# Altium integrated library TI Data Converters Analog to Digital Converter.IntLib: 2197 symbols (part 38 of 168)
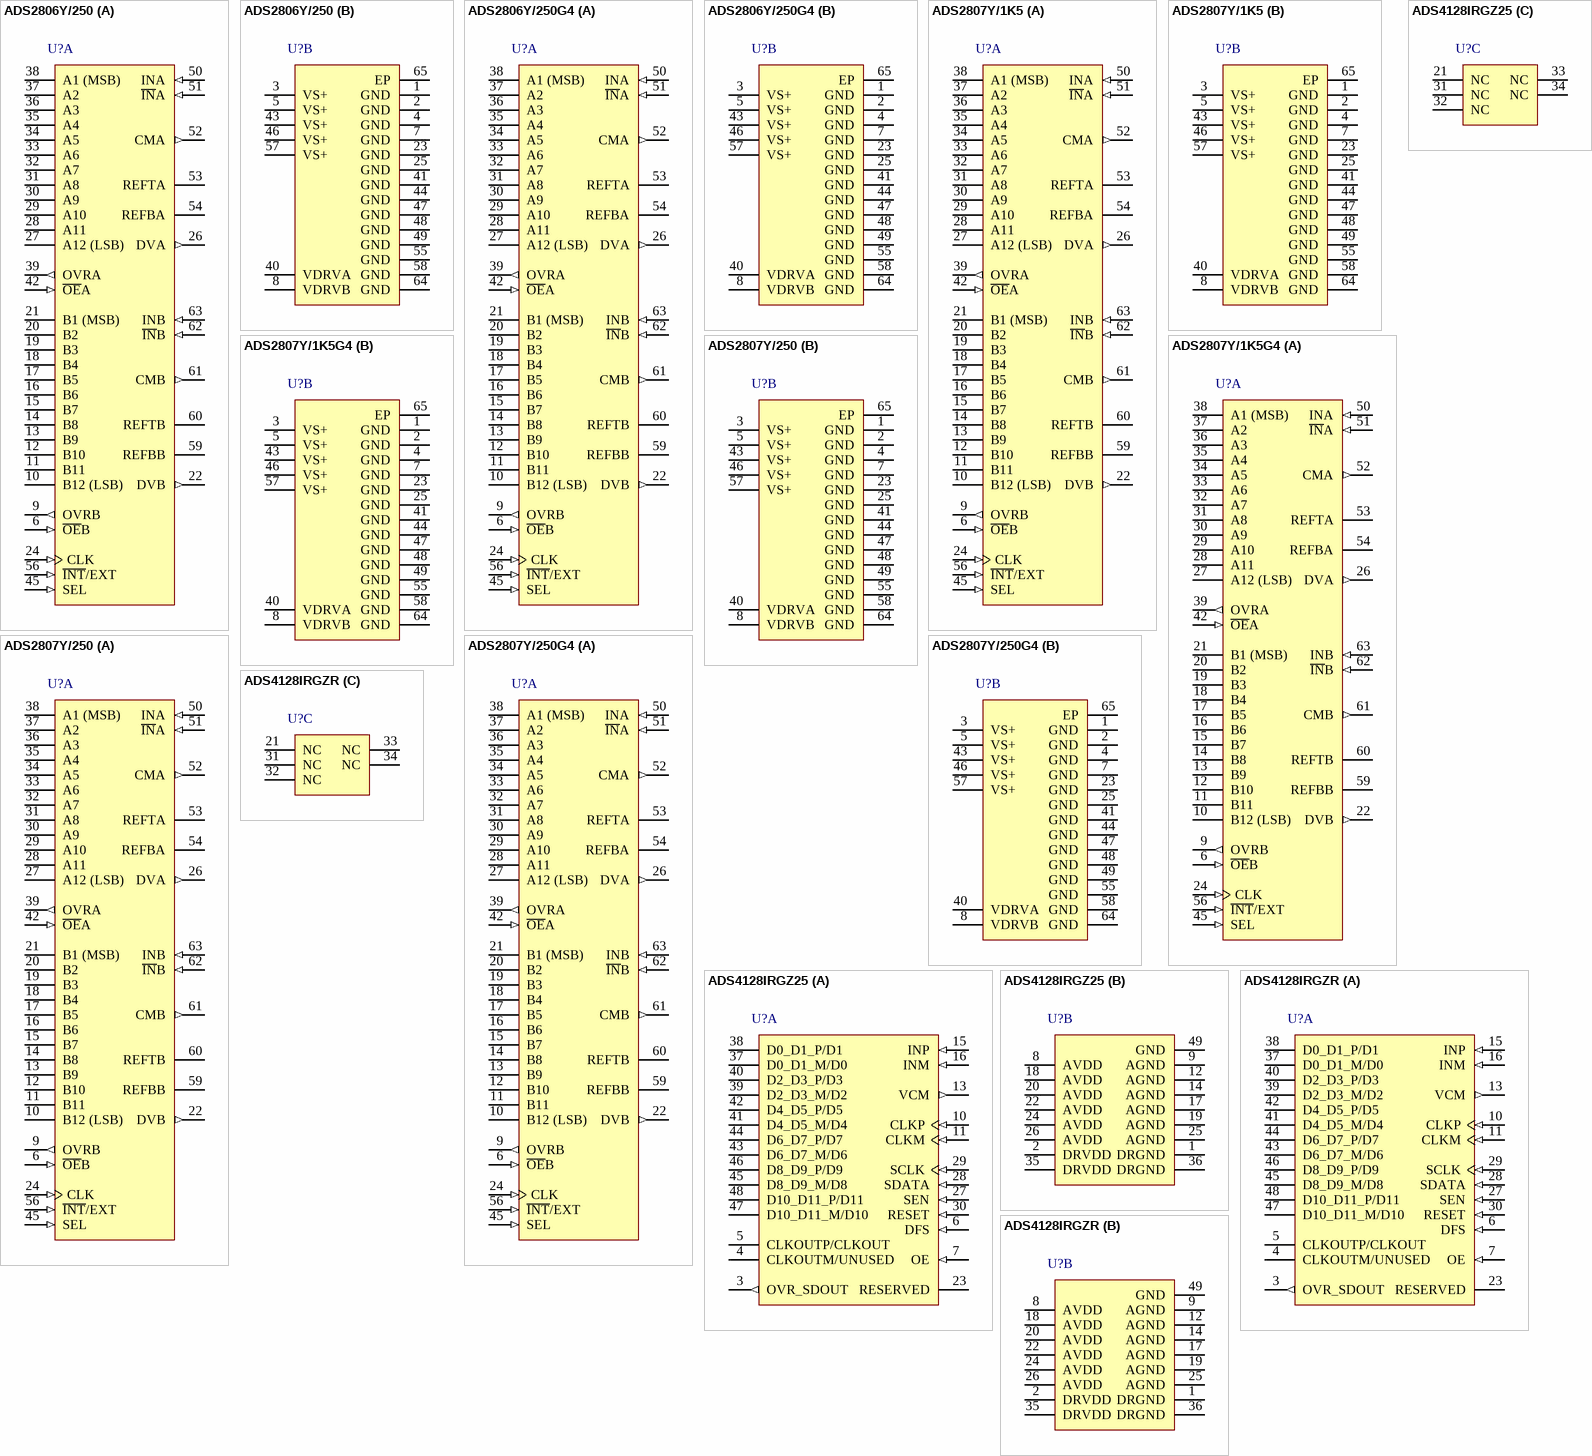
[diagram p163: symbols ADS2806Y/250 to ADS4128IRGZR]

## ADS4128IRGZR
designator U?
12-Bit, 200 MSPS, Ultralow-Power ADC, -40 to 85 degC, 48-pin QFN (RGZ48), Green (RoHS & no Sb/Br); Manufacturer: Texas Instruments; PartNumber: ADS4128IRGZR; # Input Channels: 1; Analog Voltage AV/DD(Max)(V): 1.9; Analog Voltage AV/DD(Min)(V): 1.7; Architecture: Pipeline; ENOB(Bits): 11.2; INL(Max)(+/-LSB): 5; Interface: Parallel CMOS, Parallel LVDS; Resolution(Bits): 12; Sample Rate(max)(SPS): 200M; SFDR(dB): 85; SINAD(dB): 68.8; SNR(dB): 69; SubFamily: High Speed ADC (>10MSPS); DatasheetVersion: SBAS578; PackageVersion: 4204101/F, 06/2011; PackageReference: RGZ48-5600X5600TP; PackageDescription: 48-Lead, Plastic Flat Pack, Body Size 7 x 7 mm, Pitch 0.5 mm; Supplier 1: Digi-Key; Supplier Part Number 1: THS1030IPWG4-ND; Supplier 2: Mouser; Supplier Part Number 2: 595-THS1030IPWG4; Digital Supply(Max)(V): 1.9; Digital Supply(Min)(V): 1.7; Eco-Plan: Green (RoHS & no Sb/Br); Mounting Technology: Surface Mount; Code_JEDEC: MO-220; ComponentLink1Description: Manufacturer URL; ComponentLink1URL: http://www.ti.com/; ComponentLink2Description: Datasheet; ComponentLink2URL: http://www.ti.com/lit/ds/symlink/ads4128.pdf; ComponentLink3Description: Package Specification; ComponentLink3URL: http://www.ti.com/lit/ml/mpqf123e/mpqf123e.pdf
footprint TI-RGZ48-5600X5600TP_V (QFN, 48-Leads, Body 7x7mm, Pitch 0.5mm, Thermal Pad 5.6x5.6mm)
part A pins: 3 OVR_SDOUT (out) "This pin functions as an out-of-range indicator after reset when register bit READOUT = 0, and functions as a serial register readout pin when READOUT = 1.", 4 CLKOUTM/UNUSED (hiz), 5 CLKOUTP/CLKOUT (hiz), 6 DFS (in) "Data format select input. This pin sets the DATA FORMAT (twos complement or offset binary) and the LVDS and CMOS output interface type.", 7 OE (in) "Output buffer enable input, active high; this pin has an internal 180-kohm pull-up resistor to DRVDD.", 10 CLKP (in) "Differential clock input, positive", 11 CLKM (in) "Differential clock input, negative", 13 VCM (out) "Outputs the common-mode voltage (0.95 V) that can be used externally to bias the analog input pins.", 15 INP (in) "Differential analog input, positive", 16 INM (in) "Differential analog input, negative", 23 RESERVED "Digital control pin, reserved for future use", 27 SEN (in) "This pin functions as a serial interface enable input when RESET is low. When RESET is high, SEN has no function and should be tied to AVDD. This pin has an internal 180-kohm pull-up resistor to AVDD.", 28 SDATA (in) "This pin functions as a serial interface data input when RESET is low. When RESET is high, SDATA functions as a STANDBY control pin (see Table 10). This pin has an internal 180-kohm pull-down resistor.", 29 SCLK (in) "This pin functions as a serial interface clock input when RESET is low. When RESET is high, SCLK has no function and should be tied to ground. This pin has an internal 180-kohm pull-down resistor.", 30 RESET (in) "Serial interface RESET input. When using the serial interface mode, the internal registers must initialize through hardware RESET by applying a high pulse on this pin or by using the software reset option; refer to the (See Datasheet)", 37 D0_D1_M/D0 (hiz), 38 D0_D1_P/D1 (hiz), 39 D2_D3_M/D2 (hiz), 40 D2_D3_P/D3 (hiz), 41 D4_D5_M/D4 (hiz), 42 D4_D5_P/D5 (hiz), 43 D6_D7_M/D6 (hiz), 44 D6_D7_P/D7 (hiz), 45 D8_D9_M/D8 (hiz), 46 D8_D9_P/D9 (hiz), 47 D10_D11_M/D10 (hiz), 48 D10_D11_P/D11 (hiz)
part B pins: 1 DRGND (power) "Digital and output buffer ground", 2 DRVDD (power) "1.8-V digital and output buffer supply", 8 AVDD (power) "1.8-V analog power supply", 9 AGND (power) "Analog ground", 12 AGND (power) "Analog ground", 14 AGND (power) "Analog ground", 17 AGND (power) "Analog ground", 18 AVDD (power) "1.8-V analog power supply", 19 AGND (power) "Analog ground", 20 AVDD (power) "1.8-V analog power supply", 22 AVDD (power) "1.8-V analog power supply", 24 AVDD (power) "1.8-V analog power supply", 25 AGND (power) "Analog ground", 26 AVDD (power) "1.8-V analog power supply", 35 DRVDD (power) "1.8-V digital and output buffer supply", 36 DRGND (power) "Digital and output buffer ground", 49 GND (power) "Digital and output buffer ground"
part C pins: 21 NC "Do not connect", 31 NC "Do not connect", 32 NC "Do not connect", 33 NC "Do not connect", 34 NC "Do not connect"

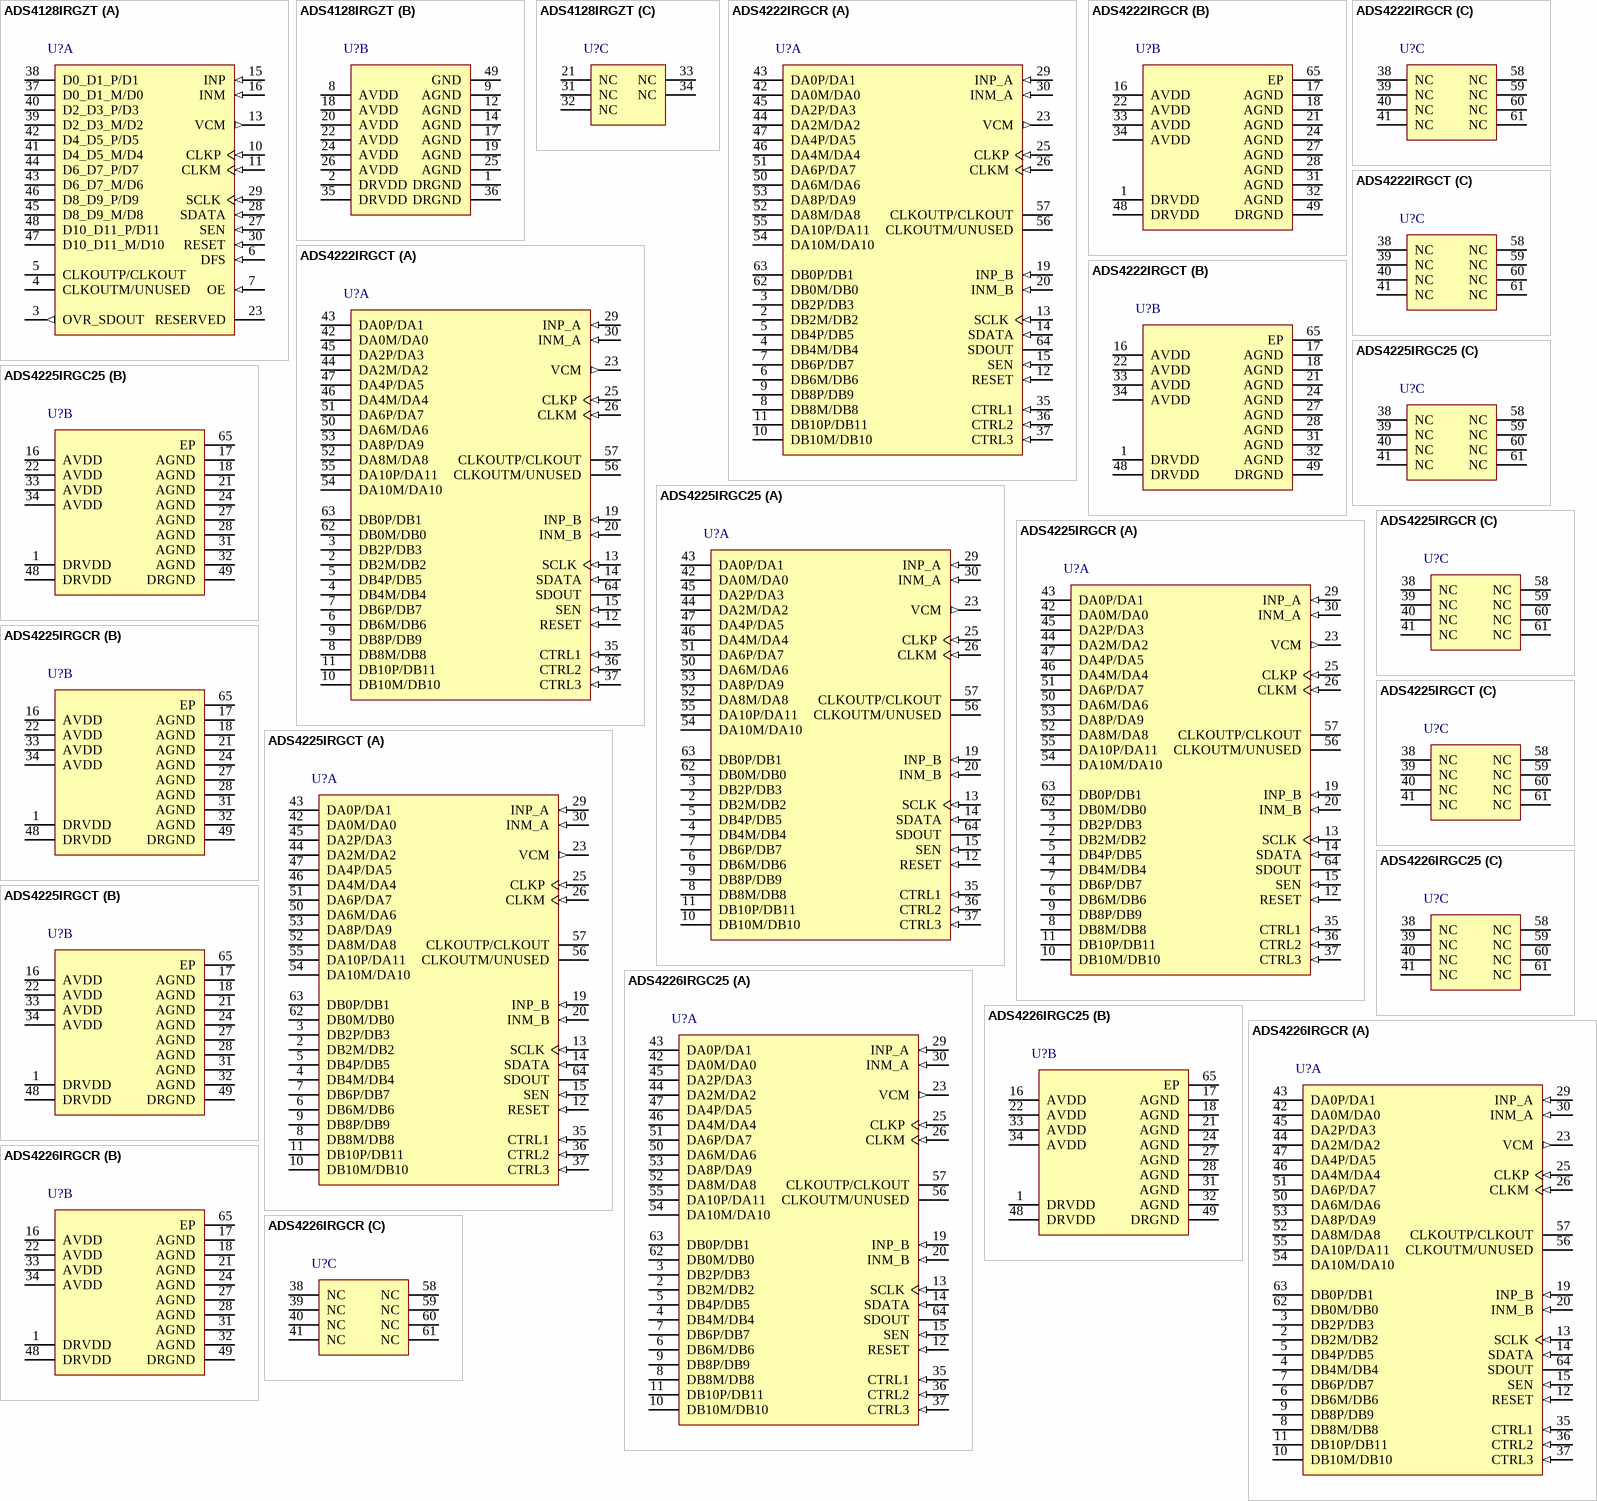
[diagram p32: symbols ADS4128IRGZT to ADS4226IRGCR]

## ADS4128IRGZT
designator U?
12-Bit, 200 MSPS, Ultralow-Power ADC, -40 to 85 degC, 48-pin QFN (RGZ48), Green (RoHS & no Sb/Br); Manufacturer: Texas Instruments; PartNumber: ADS4128IRGZT; # Input Channels: 1; Analog Voltage AV/DD(Max)(V): 1.9; Analog Voltage AV/DD(Min)(V): 1.7; Architecture: Pipeline; ENOB(Bits): 11.2; INL(Max)(+/-LSB): 5; Interface: Parallel CMOS, Parallel LVDS; Resolution(Bits): 12; Sample Rate(max)(SPS): 200M; SFDR(dB): 85; SINAD(dB): 68.8; SNR(dB): 69; SubFamily: High Speed ADC (>10MSPS); DatasheetVersion: SBAS578; PackageVersion: 4204101/F, 06/2011; PackageReference: RGZ48-5600X5600TP; PackageDescription: 48-Lead, Plastic Flat Pack, Body Size 7 x 7 mm, Pitch 0.5 mm; Supplier 1: Digi-Key; Supplier Part Number 1: THS1030IPWR-ND; Supplier 2: Mouser; Supplier Part Number 2: 595-THS1030IPWR; Digital Supply(Max)(V): 1.9; Digital Supply(Min)(V): 1.7; Eco-Plan: Green (RoHS & no Sb/Br); Mounting Technology: Surface Mount; Code_JEDEC: MO-220; ComponentLink1Description: Manufacturer URL; ComponentLink1URL: http://www.ti.com/; ComponentLink2Description: Datasheet; ComponentLink2URL: http://www.ti.com/lit/ds/symlink/ads4128.pdf; ComponentLink3Description: Package Specification; ComponentLink3URL: http://www.ti.com/lit/ml/mpqf123e/mpqf123e.pdf
footprint TI-RGZ48-5600X5600TP_V (QFN, 48-Leads, Body 7x7mm, Pitch 0.5mm, Thermal Pad 5.6x5.6mm)
part A pins: 3 OVR_SDOUT (out) "This pin functions as an out-of-range indicator after reset when register bit READOUT = 0, and functions as a serial register readout pin when READOUT = 1.", 4 CLKOUTM/UNUSED (hiz), 5 CLKOUTP/CLKOUT (hiz), 6 DFS (in) "Data format select input. This pin sets the DATA FORMAT (twos complement or offset binary) and the LVDS and CMOS output interface type.", 7 OE (in) "Output buffer enable input, active high; this pin has an internal 180-kohm pull-up resistor to DRVDD.", 10 CLKP (in) "Differential clock input, positive", 11 CLKM (in) "Differential clock input, negative", 13 VCM (out) "Outputs the common-mode voltage (0.95 V) that can be used externally to bias the analog input pins.", 15 INP (in) "Differential analog input, positive", 16 INM (in) "Differential analog input, negative", 23 RESERVED "Digital control pin, reserved for future use", 27 SEN (in) "This pin functions as a serial interface enable input when RESET is low. When RESET is high, SEN has no function and should be tied to AVDD. This pin has an internal 180-kohm pull-up resistor to AVDD.", 28 SDATA (in) "This pin functions as a serial interface data input when RESET is low. When RESET is high, SDATA functions as a STANDBY control pin (see Table 10). This pin has an internal 180-kohm pull-down resistor.", 29 SCLK (in) "This pin functions as a serial interface clock input when RESET is low. When RESET is high, SCLK has no function and should be tied to ground. This pin has an internal 180-kohm pull-down resistor.", 30 RESET (in) "Serial interface RESET input. When using the serial interface mode, the internal registers must initialize through hardware RESET by applying a high pulse on this pin or by using the software reset option; refer to the (See Datasheet)", 37 D0_D1_M/D0 (hiz), 38 D0_D1_P/D1 (hiz), 39 D2_D3_M/D2 (hiz), 40 D2_D3_P/D3 (hiz), 41 D4_D5_M/D4 (hiz), 42 D4_D5_P/D5 (hiz), 43 D6_D7_M/D6 (hiz), 44 D6_D7_P/D7 (hiz), 45 D8_D9_M/D8 (hiz), 46 D8_D9_P/D9 (hiz), 47 D10_D11_M/D10 (hiz), 48 D10_D11_P/D11 (hiz)
part B pins: 1 DRGND (power) "Digital and output buffer ground", 2 DRVDD (power) "1.8-V digital and output buffer supply", 8 AVDD (power) "1.8-V analog power supply", 9 AGND (power) "Analog ground", 12 AGND (power) "Analog ground", 14 AGND (power) "Analog ground", 17 AGND (power) "Analog ground", 18 AVDD (power) "1.8-V analog power supply", 19 AGND (power) "Analog ground", 20 AVDD (power) "1.8-V analog power supply", 22 AVDD (power) "1.8-V analog power supply", 24 AVDD (power) "1.8-V analog power supply", 25 AGND (power) "Analog ground", 26 AVDD (power) "1.8-V analog power supply", 35 DRVDD (power) "1.8-V digital and output buffer supply", 36 DRGND (power) "Digital and output buffer ground", 49 GND (power) "Digital and output buffer ground"
part C pins: 21 NC "Do not connect", 31 NC "Do not connect", 32 NC "Do not connect", 33 NC "Do not connect", 34 NC "Do not connect"

## ADS4222IRGCR
designator U?
12-Bit 65 MSPS Dual Low Power ADC, -40 to 85 degC, 64-pin QFN (RGC64), Green (RoHS & no Sb/Br); Manufacturer: Texas Instruments; PartNumber: ADS4222IRGCR; # Input Channels: 2; Analog Voltage AV/DD(Max)(V): 1.9; Analog Voltage AV/DD(Min)(V): 1.7; Architecture: Pipeline; ENOB(Bits): 11.1; INL(Max)(+/-LSB): 2.5; Interface: Parallel CMOS, Parallel LVDS; Resolution(Bits): 12; Sample Rate (max)(SPS): 65M; SFDR(dB): 91; SINAD(dB): 70.8; SNR(dB): 70.9; SubFamily: High Speed ADC (>10MSPS); DatasheetVersion: SBAS533C; PackageVersion: 4204106/F, 11/2011; PackageReference: RGC64-7400X7400TP; PackageDescription: 64-Pin Plastic Quad Flatpack No-Lead, Body 9 x 9 mm, Pitch 0.5 mm; Supplier 1: Digi-Key; Supplier Part Number 1: THS1030IPWRG4-ND; Supplier 2: Mouser; Supplier Part Number 2: 595-THS1030IPWRG4; Digital Supply(Max)(V): 1.9; Digital Supply(Min)(V): 1.7; Eco-Plan: Green (RoHS & no Sb/Br); Mounting Technology: Surface Mount; ComponentLink1Description: Manufacturer URL; ComponentLink1URL: http://www.ti.com/; ComponentLink2Description: Datasheet; ComponentLink2URL: http://www.ti.com/general/docs/lit/getliterature.tsp?genericPartNumber=ADS4222&fileType=pdf; ComponentLink3Description: Package Specification; ComponentLink3URL: http://www.ti.com/litv/pdf/mpqf125e
footprint TI-RGC64-7400X7400TP_V (QFN, 64-Leads, Body 9x9mm, Pitch 0.5mm, Thermal Pad 7.4x7.4mm, TI Recommended)
part A pins: 2 DB2M/DB2 (hiz), 3 DB2P/DB3 (hiz), 4 DB4M/DB4 (hiz), 5 DB4P/DB5 (hiz), 6 DB6M/DB6 (hiz), 7 DB6P/DB7 (hiz), 8 DB8M/DB8 (hiz), 9 DB8P/DB9 (hiz), 10 DB10M/DB10 (hiz), 11 DB10P/DB11 (hiz), 12 RESET (in) "Serial interface RESET input. When using the serial interface mode, the internal registers must be initialized through a hardware RESET by applying a high pulse on this pin or by using the software reset option; refer to the (See Datasheet)", 13 SCLK (in) "This pin functions as a serial interface clock input when RESET is low. It controls the low-speed mode selection when RESET is tied high; see Table 5 for detailed information. This pin has an internal 150kOhm pull-down (See Datasheet)", 14 SDATA (in) "Serial interface data input; this pin has an internal 150kOhm pull-down resistor.", 15 SEN (in) "This pin functions as a serial interface enable input when RESET is low. It controls the output interface and data format selection when RESET is tied high; see Table 6 for detailed information. This pin has an internal (See Datasheet)", 19 INP_B (in) "Differential analog positive input, channel B", 20 INM_B (in) "Differential analog negative input, channel B", 23 VCM (out) "This pin outputs the common-mode voltage (0.95V) that can be used externally to bias the analog input pins", 25 CLKP (in) "Differential clock positive input", 26 CLKM (in) "Differential clock negative input", 29 INP_A (in) "Differential analog positive input, channel A", 30 INM_A (in) "Differential analog negative input, channel A", 35 CTRL1 (in) "Digital control input pins. Together, they control the various power-down modes.", 36 CTRL2 (in) "Digital control input pins. Together, they control the various power-down modes.", 37 CTRL3 (in) "Digital control input pins. Together, they control the various power-down modes.", 42 DA0M/DA0 (hiz), 43 DA0P/DA1 (hiz), 44 DA2M/DA2 (hiz), 45 DA2P/DA3 (hiz), 46 DA4M/DA4 (hiz), 47 DA4P/DA5 (hiz), 50 DA6M/DA6 (hiz), 51 DA6P/DA7 (hiz), 52 DA8M/DA8 (hiz), 53 DA8P/DA9 (hiz), 54 DA10M/DA10 (hiz), 55 DA10P/DA11 (hiz), 56 CLKOUTM/UNUSED (hiz), 57 CLKOUTP/CLKOUT (hiz), 62 DB0M/DB0 (hiz), 63 DB0P/DB1 (hiz), 64 SDOUT (hiz) "This pin functions as a serial interface register readout when the READOUT bit is enabled. When READOUT = 0, this pin is in high-impedance state."
part B pins: 1 DRVDD (power) "Output buffer supply", 16 AVDD (power) "Analog power supply", 17 AGND (power) "Analog ground", 18 AGND (power) "Analog ground", 21 AGND (power) "Analog ground", 22 AVDD (power) "Analog power supply", 24 AGND (power) "Analog ground", 27 AGND (power) "Analog ground", 28 AGND (power) "Analog ground", 31 AGND (power) "Analog ground", 32 AGND (power) "Analog ground", 33 AVDD (power) "Analog power supply", 34 AVDD (power) "Analog power supply", 48 DRVDD (power) "Output buffer supply", 49 DRGND (power) "Output buffer ground", 65 EP (power) "Output buffer ground"
part C pins: 38 NC "Do not connect, must be floated", 39 NC "Do not connect, must be floated", 40 NC "Do not connect, must be floated", 41 NC "Do not connect, must be floated", 58 NC "Do not connect, must be floated", 59 NC "Do not connect, must be floated", 60 NC "Do not connect, must be floated", 61 NC "Do not connect, must be floated"

## ADS4222IRGCT
designator U?
12-Bit 65 MSPS Dual Low Power ADC, -40 to 85 degC, 64-pin QFN (RGC64), Green (RoHS & no Sb/Br); Manufacturer: Texas Instruments; PartNumber: ADS4222IRGCT; # Input Channels: 2; Analog Voltage AV/DD(Max)(V): 1.9; Analog Voltage AV/DD(Min)(V): 1.7; Architecture: Pipeline; ENOB(Bits): 11.1; INL(Max)(+/-LSB): 2.5; Interface: Parallel CMOS, Parallel LVDS; Resolution(Bits): 12; Sample Rate (max)(SPS): 65M; SFDR(dB): 91; SINAD(dB): 70.8; SNR(dB): 70.9; SubFamily: High Speed ADC (>10MSPS); DatasheetVersion: SBAS533C; PackageVersion: 4204106/F, 11/2011; PackageReference: RGC64-7400X7400TP; PackageDescription: 64-Pin Plastic Quad Flatpack No-Lead, Body 9 x 9 mm, Pitch 0.5 mm; Supplier 1: Digi-Key; Supplier Part Number 1: 296-34195-5-ND; Supplier 2: Mouser; Supplier Part Number 2: 595-THS1031CPW; Digital Supply(Max)(V): 1.9; Digital Supply(Min)(V): 1.7; Eco-Plan: Green (RoHS & no Sb/Br); Mounting Technology: Surface Mount; ComponentLink1Description: Manufacturer URL; ComponentLink1URL: http://www.ti.com/; ComponentLink2Description: Datasheet; ComponentLink2URL: http://www.ti.com/general/docs/lit/getliterature.tsp?genericPartNumber=ADS4222&fileType=pdf; ComponentLink3Description: Package Specification; ComponentLink3URL: http://www.ti.com/litv/pdf/mpqf125e
footprint TI-RGC64-7400X7400TP_V (QFN, 64-Leads, Body 9x9mm, Pitch 0.5mm, Thermal Pad 7.4x7.4mm, TI Recommended)
part A pins: 2 DB2M/DB2 (hiz), 3 DB2P/DB3 (hiz), 4 DB4M/DB4 (hiz), 5 DB4P/DB5 (hiz), 6 DB6M/DB6 (hiz), 7 DB6P/DB7 (hiz), 8 DB8M/DB8 (hiz), 9 DB8P/DB9 (hiz), 10 DB10M/DB10 (hiz), 11 DB10P/DB11 (hiz), 12 RESET (in) "Serial interface RESET input. When using the serial interface mode, the internal registers must be initialized through a hardware RESET by applying a high pulse on this pin or by using the software reset option; refer to the (See Datasheet)", 13 SCLK (in) "This pin functions as a serial interface clock input when RESET is low. It controls the low-speed mode selection when RESET is tied high; see Table 5 for detailed information. This pin has an internal 150kOhm pull-down (See Datasheet)", 14 SDATA (in) "Serial interface data input; this pin has an internal 150kOhm pull-down resistor.", 15 SEN (in) "This pin functions as a serial interface enable input when RESET is low. It controls the output interface and data format selection when RESET is tied high; see Table 6 for detailed information. This pin has an internal (See Datasheet)", 19 INP_B (in) "Differential analog positive input, channel B", 20 INM_B (in) "Differential analog negative input, channel B", 23 VCM (out) "This pin outputs the common-mode voltage (0.95V) that can be used externally to bias the analog input pins", 25 CLKP (in) "Differential clock positive input", 26 CLKM (in) "Differential clock negative input", 29 INP_A (in) "Differential analog positive input, channel A", 30 INM_A (in) "Differential analog negative input, channel A", 35 CTRL1 (in) "Digital control input pins. Together, they control the various power-down modes.", 36 CTRL2 (in) "Digital control input pins. Together, they control the various power-down modes.", 37 CTRL3 (in) "Digital control input pins. Together, they control the various power-down modes.", 42 DA0M/DA0 (hiz), 43 DA0P/DA1 (hiz), 44 DA2M/DA2 (hiz), 45 DA2P/DA3 (hiz), 46 DA4M/DA4 (hiz), 47 DA4P/DA5 (hiz), 50 DA6M/DA6 (hiz), 51 DA6P/DA7 (hiz), 52 DA8M/DA8 (hiz), 53 DA8P/DA9 (hiz), 54 DA10M/DA10 (hiz), 55 DA10P/DA11 (hiz), 56 CLKOUTM/UNUSED (hiz), 57 CLKOUTP/CLKOUT (hiz), 62 DB0M/DB0 (hiz), 63 DB0P/DB1 (hiz), 64 SDOUT (hiz) "This pin functions as a serial interface register readout when the READOUT bit is enabled. When READOUT = 0, this pin is in high-impedance state."
part B pins: 1 DRVDD (power) "Output buffer supply", 16 AVDD (power) "Analog power supply", 17 AGND (power) "Analog ground", 18 AGND (power) "Analog ground", 21 AGND (power) "Analog ground", 22 AVDD (power) "Analog power supply", 24 AGND (power) "Analog ground", 27 AGND (power) "Analog ground", 28 AGND (power) "Analog ground", 31 AGND (power) "Analog ground", 32 AGND (power) "Analog ground", 33 AVDD (power) "Analog power supply", 34 AVDD (power) "Analog power supply", 48 DRVDD (power) "Output buffer supply", 49 DRGND (power) "Output buffer ground", 65 EP (power) "Output buffer ground"
part C pins: 38 NC "Do not connect, must be floated", 39 NC "Do not connect, must be floated", 40 NC "Do not connect, must be floated", 41 NC "Do not connect, must be floated", 58 NC "Do not connect, must be floated", 59 NC "Do not connect, must be floated", 60 NC "Do not connect, must be floated", 61 NC "Do not connect, must be floated"

## ADS4225IRGC25
designator U?
12-Bit 125 MSPS Dual Low Power ADC, -40 to 85 degC, 64-pin QFN (RGC64), Green (RoHS & no Sb/Br); Manufacturer: Texas Instruments; PartNumber: ADS4225IRGC25; # Input Channels: 2; Analog Voltage AV/DD(Max)(V): 1.9; Analog Voltage AV/DD(Min)(V): 1.7; Architecture: Pipeline; ENOB(Bits): 11.3; INL(Max)(+/-LSB): 3.5; Interface: Parallel CMOS, Parallel LVDS; Resolution(Bits): 12; Sample Rate (max)(SPS): 125M; SFDR(dB): 88; SINAD(dB): 70.7; SNR(dB): 70.8; SubFamily: High Speed ADC (>10MSPS); DatasheetVersion: SBAS533C; PackageVersion: 4204106/F, 11/2011; PackageReference: RGC64-7400X7400TP; PackageDescription: 64-Pin Plastic Quad Flatpack No-Lead, Body 9 x 9 mm, Pitch 0.5 mm; Supplier 1: Digi-Key; Supplier Part Number 1: THS1031CPWG4-ND; Supplier 2: Mouser; Supplier Part Number 2: 595-THS1031CPWG4; Digital Supply(Max)(V): 1.9; Digital Supply(Min)(V): 1.7; Eco-Plan: Green (RoHS & no Sb/Br); Mounting Technology: Surface Mount; ComponentLink1Description: Manufacturer URL; ComponentLink1URL: http://www.ti.com/; ComponentLink2Description: Datasheet; ComponentLink2URL: http://www.ti.com/general/docs/lit/getliterature.tsp?genericPartNumber=ADS4225&fileType=pdf; ComponentLink3Description: Package Specification; ComponentLink3URL: http://www.ti.com/litv/pdf/mpqf125e
footprint TI-RGC64-7400X7400TP_V (QFN, 64-Leads, Body 9x9mm, Pitch 0.5mm, Thermal Pad 7.4x7.4mm, TI Recommended)
part A pins: 2 DB2M/DB2 (hiz), 3 DB2P/DB3 (hiz), 4 DB4M/DB4 (hiz), 5 DB4P/DB5 (hiz), 6 DB6M/DB6 (hiz), 7 DB6P/DB7 (hiz), 8 DB8M/DB8 (hiz), 9 DB8P/DB9 (hiz), 10 DB10M/DB10 (hiz), 11 DB10P/DB11 (hiz), 12 RESET (in) "Serial interface RESET input. When using the serial interface mode, the internal registers must be initialized through a hardware RESET by applying a high pulse on this pin or by using the software reset option; refer to the (See Datasheet)", 13 SCLK (in) "This pin functions as a serial interface clock input when RESET is low. It controls the low-speed mode selection when RESET is tied high; see Table 5 for detailed information. This pin has an internal 150kOhm pull-down (See Datasheet)", 14 SDATA (in) "Serial interface data input; this pin has an internal 150kOhm pull-down resistor.", 15 SEN (in) "This pin functions as a serial interface enable input when RESET is low. It controls the output interface and data format selection when RESET is tied high; see Table 6 for detailed information. This pin has an internal (See Datasheet)", 19 INP_B (in) "Differential analog positive input, channel B", 20 INM_B (in) "Differential analog negative input, channel B", 23 VCM (out) "This pin outputs the common-mode voltage (0.95V) that can be used externally to bias the analog input pins", 25 CLKP (in) "Differential clock positive input", 26 CLKM (in) "Differential clock negative input", 29 INP_A (in) "Differential analog positive input, channel A", 30 INM_A (in) "Differential analog negative input, channel A", 35 CTRL1 (in) "Digital control input pins. Together, they control the various power-down modes.", 36 CTRL2 (in) "Digital control input pins. Together, they control the various power-down modes.", 37 CTRL3 (in) "Digital control input pins. Together, they control the various power-down modes.", 42 DA0M/DA0 (hiz), 43 DA0P/DA1 (hiz), 44 DA2M/DA2 (hiz), 45 DA2P/DA3 (hiz), 46 DA4M/DA4 (hiz), 47 DA4P/DA5 (hiz), 50 DA6M/DA6 (hiz), 51 DA6P/DA7 (hiz), 52 DA8M/DA8 (hiz), 53 DA8P/DA9 (hiz), 54 DA10M/DA10 (hiz), 55 DA10P/DA11 (hiz), 56 CLKOUTM/UNUSED (hiz), 57 CLKOUTP/CLKOUT (hiz), 62 DB0M/DB0 (hiz), 63 DB0P/DB1 (hiz), 64 SDOUT (hiz) "This pin functions as a serial interface register readout when the READOUT bit is enabled. When READOUT = 0, this pin is in high-impedance state."
part B pins: 1 DRVDD (power) "Output buffer supply", 16 AVDD (power) "Analog power supply", 17 AGND (power) "Analog ground", 18 AGND (power) "Analog ground", 21 AGND (power) "Analog ground", 22 AVDD (power) "Analog power supply", 24 AGND (power) "Analog ground", 27 AGND (power) "Analog ground", 28 AGND (power) "Analog ground", 31 AGND (power) "Analog ground", 32 AGND (power) "Analog ground", 33 AVDD (power) "Analog power supply", 34 AVDD (power) "Analog power supply", 48 DRVDD (power) "Output buffer supply", 49 DRGND (power) "Output buffer ground", 65 EP (power) "Output buffer ground"
part C pins: 38 NC "Do not connect, must be floated", 39 NC "Do not connect, must be floated", 40 NC "Do not connect, must be floated", 41 NC "Do not connect, must be floated", 58 NC "Do not connect, must be floated", 59 NC "Do not connect, must be floated", 60 NC "Do not connect, must be floated", 61 NC "Do not connect, must be floated"

## ADS4225IRGCR
designator U?
12-Bit 125 MSPS Dual Low Power ADC, -40 to 85 degC, 64-pin QFN (RGC64), Green (RoHS & no Sb/Br); Manufacturer: Texas Instruments; PartNumber: ADS4225IRGCR; # Input Channels: 2; Analog Voltage AV/DD(Max)(V): 1.9; Analog Voltage AV/DD(Min)(V): 1.7; Architecture: Pipeline; ENOB(Bits): 11.3; INL(Max)(+/-LSB): 3.5; Interface: Parallel CMOS, Parallel LVDS; Resolution(Bits): 12; Sample Rate (max)(SPS): 125M; SFDR(dB): 88; SINAD(dB): 70.7; SNR(dB): 70.8; SubFamily: High Speed ADC (>10MSPS); DatasheetVersion: SBAS533C; PackageVersion: 4204106/F, 11/2011; PackageReference: RGC64-7400X7400TP; PackageDescription: 64-Pin Plastic Quad Flatpack No-Lead, Body 9 x 9 mm, Pitch 0.5 mm; Supplier 1: Digi-Key; Supplier Part Number 1: THS1031CPWR-ND; Supplier 2: Mouser; Supplier Part Number 2: 595-THS1031CPWR; Digital Supply(Max)(V): 1.9; Digital Supply(Min)(V): 1.7; Eco-Plan: Green (RoHS & no Sb/Br); Mounting Technology: Surface Mount; ComponentLink1Description: Manufacturer URL; ComponentLink1URL: http://www.ti.com/; ComponentLink2Description: Datasheet; ComponentLink2URL: http://www.ti.com/general/docs/lit/getliterature.tsp?genericPartNumber=ADS4225&fileType=pdf; ComponentLink3Description: Package Specification; ComponentLink3URL: http://www.ti.com/litv/pdf/mpqf125e
footprint TI-RGC64-7400X7400TP_V (QFN, 64-Leads, Body 9x9mm, Pitch 0.5mm, Thermal Pad 7.4x7.4mm, TI Recommended)
part A pins: 2 DB2M/DB2 (hiz), 3 DB2P/DB3 (hiz), 4 DB4M/DB4 (hiz), 5 DB4P/DB5 (hiz), 6 DB6M/DB6 (hiz), 7 DB6P/DB7 (hiz), 8 DB8M/DB8 (hiz), 9 DB8P/DB9 (hiz), 10 DB10M/DB10 (hiz), 11 DB10P/DB11 (hiz), 12 RESET (in) "Serial interface RESET input. When using the serial interface mode, the internal registers must be initialized through a hardware RESET by applying a high pulse on this pin or by using the software reset option; refer to the (See Datasheet)", 13 SCLK (in) "This pin functions as a serial interface clock input when RESET is low. It controls the low-speed mode selection when RESET is tied high; see Table 5 for detailed information. This pin has an internal 150kOhm pull-down (See Datasheet)", 14 SDATA (in) "Serial interface data input; this pin has an internal 150kOhm pull-down resistor.", 15 SEN (in) "This pin functions as a serial interface enable input when RESET is low. It controls the output interface and data format selection when RESET is tied high; see Table 6 for detailed information. This pin has an internal (See Datasheet)", 19 INP_B (in) "Differential analog positive input, channel B", 20 INM_B (in) "Differential analog negative input, channel B", 23 VCM (out) "This pin outputs the common-mode voltage (0.95V) that can be used externally to bias the analog input pins", 25 CLKP (in) "Differential clock positive input", 26 CLKM (in) "Differential clock negative input", 29 INP_A (in) "Differential analog positive input, channel A", 30 INM_A (in) "Differential analog negative input, channel A", 35 CTRL1 (in) "Digital control input pins. Together, they control the various power-down modes.", 36 CTRL2 (in) "Digital control input pins. Together, they control the various power-down modes.", 37 CTRL3 (in) "Digital control input pins. Together, they control the various power-down modes.", 42 DA0M/DA0 (hiz), 43 DA0P/DA1 (hiz), 44 DA2M/DA2 (hiz), 45 DA2P/DA3 (hiz), 46 DA4M/DA4 (hiz), 47 DA4P/DA5 (hiz), 50 DA6M/DA6 (hiz), 51 DA6P/DA7 (hiz), 52 DA8M/DA8 (hiz), 53 DA8P/DA9 (hiz), 54 DA10M/DA10 (hiz), 55 DA10P/DA11 (hiz), 56 CLKOUTM/UNUSED (hiz), 57 CLKOUTP/CLKOUT (hiz), 62 DB0M/DB0 (hiz), 63 DB0P/DB1 (hiz), 64 SDOUT (hiz) "This pin functions as a serial interface register readout when the READOUT bit is enabled. When READOUT = 0, this pin is in high-impedance state."
part B pins: 1 DRVDD (power) "Output buffer supply", 16 AVDD (power) "Analog power supply", 17 AGND (power) "Analog ground", 18 AGND (power) "Analog ground", 21 AGND (power) "Analog ground", 22 AVDD (power) "Analog power supply", 24 AGND (power) "Analog ground", 27 AGND (power) "Analog ground", 28 AGND (power) "Analog ground", 31 AGND (power) "Analog ground", 32 AGND (power) "Analog ground", 33 AVDD (power) "Analog power supply", 34 AVDD (power) "Analog power supply", 48 DRVDD (power) "Output buffer supply", 49 DRGND (power) "Output buffer ground", 65 EP (power) "Output buffer ground"
part C pins: 38 NC "Do not connect, must be floated", 39 NC "Do not connect, must be floated", 40 NC "Do not connect, must be floated", 41 NC "Do not connect, must be floated", 58 NC "Do not connect, must be floated", 59 NC "Do not connect, must be floated", 60 NC "Do not connect, must be floated", 61 NC "Do not connect, must be floated"

## ADS4225IRGCT
designator U?
12-Bit 125 MSPS Dual Low Power ADC, -40 to 85 degC, 64-pin QFN (RGC64), Green (RoHS & no Sb/Br); Manufacturer: Texas Instruments; PartNumber: ADS4225IRGCT; # Input Channels: 2; Analog Voltage AV/DD(Max)(V): 1.9; Analog Voltage AV/DD(Min)(V): 1.7; Architecture: Pipeline; ENOB(Bits): 11.3; INL(Max)(+/-LSB): 3.5; Interface: Parallel CMOS, Parallel LVDS; Resolution(Bits): 12; Sample Rate (max)(SPS): 125M; SFDR(dB): 88; SINAD(dB): 70.7; SNR(dB): 70.8; SubFamily: High Speed ADC (>10MSPS); DatasheetVersion: SBAS533C; PackageVersion: 4204106/F, 11/2011; PackageReference: RGC64-7400X7400TP; PackageDescription: 64-Pin Plastic Quad Flatpack No-Lead, Body 9 x 9 mm, Pitch 0.5 mm; Supplier 1: Digi-Key; Supplier Part Number 1: THS1031CPWRG4-ND; Supplier 2: Mouser; Supplier Part Number 2: 595-THS1031CPWRG4; Digital Supply(Max)(V): 1.9; Digital Supply(Min)(V): 1.7; Eco-Plan: Green (RoHS & no Sb/Br); Mounting Technology: Surface Mount; ComponentLink1Description: Manufacturer URL; ComponentLink1URL: http://www.ti.com/; ComponentLink2Description: Datasheet; ComponentLink2URL: http://www.ti.com/general/docs/lit/getliterature.tsp?genericPartNumber=ADS4225&fileType=pdf; ComponentLink3Description: Package Specification; ComponentLink3URL: http://www.ti.com/litv/pdf/mpqf125e
footprint TI-RGC64-7400X7400TP_V (QFN, 64-Leads, Body 9x9mm, Pitch 0.5mm, Thermal Pad 7.4x7.4mm, TI Recommended)
part A pins: 2 DB2M/DB2 (hiz), 3 DB2P/DB3 (hiz), 4 DB4M/DB4 (hiz), 5 DB4P/DB5 (hiz), 6 DB6M/DB6 (hiz), 7 DB6P/DB7 (hiz), 8 DB8M/DB8 (hiz), 9 DB8P/DB9 (hiz), 10 DB10M/DB10 (hiz), 11 DB10P/DB11 (hiz), 12 RESET (in) "Serial interface RESET input. When using the serial interface mode, the internal registers must be initialized through a hardware RESET by applying a high pulse on this pin or by using the software reset option; refer to the (See Datasheet)", 13 SCLK (in) "This pin functions as a serial interface clock input when RESET is low. It controls the low-speed mode selection when RESET is tied high; see Table 5 for detailed information. This pin has an internal 150kOhm pull-down (See Datasheet)", 14 SDATA (in) "Serial interface data input; this pin has an internal 150kOhm pull-down resistor.", 15 SEN (in) "This pin functions as a serial interface enable input when RESET is low. It controls the output interface and data format selection when RESET is tied high; see Table 6 for detailed information. This pin has an internal (See Datasheet)", 19 INP_B (in) "Differential analog positive input, channel B", 20 INM_B (in) "Differential analog negative input, channel B", 23 VCM (out) "This pin outputs the common-mode voltage (0.95V) that can be used externally to bias the analog input pins", 25 CLKP (in) "Differential clock positive input", 26 CLKM (in) "Differential clock negative input", 29 INP_A (in) "Differential analog positive input, channel A", 30 INM_A (in) "Differential analog negative input, channel A", 35 CTRL1 (in) "Digital control input pins. Together, they control the various power-down modes.", 36 CTRL2 (in) "Digital control input pins. Together, they control the various power-down modes.", 37 CTRL3 (in) "Digital control input pins. Together, they control the various power-down modes.", 42 DA0M/DA0 (hiz), 43 DA0P/DA1 (hiz), 44 DA2M/DA2 (hiz), 45 DA2P/DA3 (hiz), 46 DA4M/DA4 (hiz), 47 DA4P/DA5 (hiz), 50 DA6M/DA6 (hiz), 51 DA6P/DA7 (hiz), 52 DA8M/DA8 (hiz), 53 DA8P/DA9 (hiz), 54 DA10M/DA10 (hiz), 55 DA10P/DA11 (hiz), 56 CLKOUTM/UNUSED (hiz), 57 CLKOUTP/CLKOUT (hiz), 62 DB0M/DB0 (hiz), 63 DB0P/DB1 (hiz), 64 SDOUT (hiz) "This pin functions as a serial interface register readout when the READOUT bit is enabled. When READOUT = 0, this pin is in high-impedance state."
part B pins: 1 DRVDD (power) "Output buffer supply", 16 AVDD (power) "Analog power supply", 17 AGND (power) "Analog ground", 18 AGND (power) "Analog ground", 21 AGND (power) "Analog ground", 22 AVDD (power) "Analog power supply", 24 AGND (power) "Analog ground", 27 AGND (power) "Analog ground", 28 AGND (power) "Analog ground", 31 AGND (power) "Analog ground", 32 AGND (power) "Analog ground", 33 AVDD (power) "Analog power supply", 34 AVDD (power) "Analog power supply", 48 DRVDD (power) "Output buffer supply", 49 DRGND (power) "Output buffer ground", 65 EP (power) "Output buffer ground"
part C pins: 38 NC "Do not connect, must be floated", 39 NC "Do not connect, must be floated", 40 NC "Do not connect, must be floated", 41 NC "Do not connect, must be floated", 58 NC "Do not connect, must be floated", 59 NC "Do not connect, must be floated", 60 NC "Do not connect, must be floated", 61 NC "Do not connect, must be floated"

## ADS4226IRGC25
designator U?
12-Bit 160 MSPS Dual Low Power ADC, -40 to 85 degC, 64-pin QFN (RGC64), Green (RoHS & no Sb/Br); Manufacturer: Texas Instruments; PartNumber: ADS4226IRGC25; # Input Channels: 2; Analog Voltage AV/DD(Max)(V): 1.9; Analog Voltage AV/DD(Min)(V): 1.7; Architecture: Pipeline; ENOB(Bits): 11.2; INL(Max)(+/-LSB): 3.5; Interface: Parallel CMOS, Parallel LVDS; Resolution(Bits): 12; Sample Rate (max)(SPS): 160M; SFDR(dB): 86; SINAD(dB): 70.4; SNR(dB): 70.5; SubFamily: High Speed ADC (>10MSPS); DatasheetVersion: SBAS533C; PackageVersion: 4204106/F, 11/2011; PackageReference: RGC64-7400X7400TP; PackageDescription: 64-Pin Plastic Quad Flatpack No-Lead, Body 9 x 9 mm, Pitch 0.5 mm; Supplier 1: Digi-Key; Supplier Part Number 1: 296-2829-5-ND; Supplier 2: Mouser; Supplier Part Number 2: 595-THS1031IPW; Digital Supply(Max)(V): 1.9; Digital Supply(Min)(V): 1.7; Eco-Plan: Green (RoHS & no Sb/Br); Mounting Technology: Surface Mount; ComponentLink1Description: Manufacturer URL; ComponentLink1URL: http://www.ti.com/; ComponentLink2Description: Datasheet; ComponentLink2URL: http://www.ti.com/general/docs/lit/getliterature.tsp?genericPartNumber=ADS4226&fileType=pdf; ComponentLink3Description: Package Specification; ComponentLink3URL: http://www.ti.com/litv/pdf/mpqf125e
footprint TI-RGC64-7400X7400TP_V (QFN, 64-Leads, Body 9x9mm, Pitch 0.5mm, Thermal Pad 7.4x7.4mm, TI Recommended)
part A pins: 2 DB2M/DB2 (hiz), 3 DB2P/DB3 (hiz), 4 DB4M/DB4 (hiz), 5 DB4P/DB5 (hiz), 6 DB6M/DB6 (hiz), 7 DB6P/DB7 (hiz), 8 DB8M/DB8 (hiz), 9 DB8P/DB9 (hiz), 10 DB10M/DB10 (hiz), 11 DB10P/DB11 (hiz), 12 RESET (in) "Serial interface RESET input. When using the serial interface mode, the internal registers must be initialized through a hardware RESET by applying a high pulse on this pin or by using the software reset option; refer to the (See Datasheet)", 13 SCLK (in) "This pin functions as a serial interface clock input when RESET is low. It controls the low-speed mode selection when RESET is tied high; see Table 5 for detailed information. This pin has an internal 150kOhm pull-down (See Datasheet)", 14 SDATA (in) "Serial interface data input; this pin has an internal 150kOhm pull-down resistor.", 15 SEN (in) "This pin functions as a serial interface enable input when RESET is low. It controls the output interface and data format selection when RESET is tied high; see Table 6 for detailed information. This pin has an internal (See Datasheet)", 19 INP_B (in) "Differential analog positive input, channel B", 20 INM_B (in) "Differential analog negative input, channel B", 23 VCM (out) "This pin outputs the common-mode voltage (0.95V) that can be used externally to bias the analog input pins", 25 CLKP (in) "Differential clock positive input", 26 CLKM (in) "Differential clock negative input", 29 INP_A (in) "Differential analog positive input, channel A", 30 INM_A (in) "Differential analog negative input, channel A", 35 CTRL1 (in) "Digital control input pins. Together, they control the various power-down modes.", 36 CTRL2 (in) "Digital control input pins. Together, they control the various power-down modes.", 37 CTRL3 (in) "Digital control input pins. Together, they control the various power-down modes.", 42 DA0M/DA0 (hiz), 43 DA0P/DA1 (hiz), 44 DA2M/DA2 (hiz), 45 DA2P/DA3 (hiz), 46 DA4M/DA4 (hiz), 47 DA4P/DA5 (hiz), 50 DA6M/DA6 (hiz), 51 DA6P/DA7 (hiz), 52 DA8M/DA8 (hiz), 53 DA8P/DA9 (hiz), 54 DA10M/DA10 (hiz), 55 DA10P/DA11 (hiz), 56 CLKOUTM/UNUSED (hiz), 57 CLKOUTP/CLKOUT (hiz), 62 DB0M/DB0 (hiz), 63 DB0P/DB1 (hiz), 64 SDOUT (hiz) "This pin functions as a serial interface register readout when the READOUT bit is enabled. When READOUT = 0, this pin is in high-impedance state."
part B pins: 1 DRVDD (power) "Output buffer supply", 16 AVDD (power) "Analog power supply", 17 AGND (power) "Analog ground", 18 AGND (power) "Analog ground", 21 AGND (power) "Analog ground", 22 AVDD (power) "Analog power supply", 24 AGND (power) "Analog ground", 27 AGND (power) "Analog ground", 28 AGND (power) "Analog ground", 31 AGND (power) "Analog ground", 32 AGND (power) "Analog ground", 33 AVDD (power) "Analog power supply", 34 AVDD (power) "Analog power supply", 48 DRVDD (power) "Output buffer supply", 49 DRGND (power) "Output buffer ground", 65 EP (power) "Output buffer ground"
part C pins: 38 NC "Do not connect, must be floated", 39 NC "Do not connect, must be floated", 40 NC "Do not connect, must be floated", 41 NC "Do not connect, must be floated", 58 NC "Do not connect, must be floated", 59 NC "Do not connect, must be floated", 60 NC "Do not connect, must be floated", 61 NC "Do not connect, must be floated"

## ADS4226IRGCR
designator U?
12-Bit 160 MSPS Dual Low Power ADC, -40 to 85 degC, 64-pin QFN (RGC64), Green (RoHS & no Sb/Br); Manufacturer: Texas Instruments; PartNumber: ADS4226IRGCR; # Input Channels: 2; Analog Voltage AV/DD(Max)(V): 1.9; Analog Voltage AV/DD(Min)(V): 1.7; Architecture: Pipeline; ENOB(Bits): 11.2; INL(Max)(+/-LSB): 3.5; Interface: Parallel CMOS, Parallel LVDS; Resolution(Bits): 12; Sample Rate (max)(SPS): 160M; SFDR(dB): 86; SINAD(dB): 70.4; SNR(dB): 70.5; SubFamily: High Speed ADC (>10MSPS); DatasheetVersion: SBAS533C; PackageVersion: 4204106/F, 11/2011; PackageReference: RGC64-7400X7400TP; PackageDescription: 64-Pin Plastic Quad Flatpack No-Lead, Body 9 x 9 mm, Pitch 0.5 mm; Supplier 1: Digi-Key; Supplier Part Number 1: THS1031IPWG4-ND; Supplier 2: Mouser; Supplier Part Number 2: 595-THS1031IPWG4; Digital Supply(Max)(V): 1.9; Digital Supply(Min)(V): 1.7; Eco-Plan: Green (RoHS & no Sb/Br); Mounting Technology: Surface Mount; ComponentLink1Description: Manufacturer URL; ComponentLink1URL: http://www.ti.com/; ComponentLink2Description: Datasheet; ComponentLink2URL: http://www.ti.com/general/docs/lit/getliterature.tsp?genericPartNumber=ADS4226&fileType=pdf; ComponentLink3Description: Package Specification; ComponentLink3URL: http://www.ti.com/litv/pdf/mpqf125e
footprint TI-RGC64-7400X7400TP_V (QFN, 64-Leads, Body 9x9mm, Pitch 0.5mm, Thermal Pad 7.4x7.4mm, TI Recommended)
part A pins: 2 DB2M/DB2 (hiz), 3 DB2P/DB3 (hiz), 4 DB4M/DB4 (hiz), 5 DB4P/DB5 (hiz), 6 DB6M/DB6 (hiz), 7 DB6P/DB7 (hiz), 8 DB8M/DB8 (hiz), 9 DB8P/DB9 (hiz), 10 DB10M/DB10 (hiz), 11 DB10P/DB11 (hiz), 12 RESET (in) "Serial interface RESET input. When using the serial interface mode, the internal registers must be initialized through a hardware RESET by applying a high pulse on this pin or by using the software reset option; refer to the (See Datasheet)", 13 SCLK (in) "This pin functions as a serial interface clock input when RESET is low. It controls the low-speed mode selection when RESET is tied high; see Table 5 for detailed information. This pin has an internal 150kOhm pull-down (See Datasheet)", 14 SDATA (in) "Serial interface data input; this pin has an internal 150kOhm pull-down resistor.", 15 SEN (in) "This pin functions as a serial interface enable input when RESET is low. It controls the output interface and data format selection when RESET is tied high; see Table 6 for detailed information. This pin has an internal (See Datasheet)", 19 INP_B (in) "Differential analog positive input, channel B", 20 INM_B (in) "Differential analog negative input, channel B", 23 VCM (out) "This pin outputs the common-mode voltage (0.95V) that can be used externally to bias the analog input pins", 25 CLKP (in) "Differential clock positive input", 26 CLKM (in) "Differential clock negative input", 29 INP_A (in) "Differential analog positive input, channel A", 30 INM_A (in) "Differential analog negative input, channel A", 35 CTRL1 (in) "Digital control input pins. Together, they control the various power-down modes.", 36 CTRL2 (in) "Digital control input pins. Together, they control the various power-down modes.", 37 CTRL3 (in) "Digital control input pins. Together, they control the various power-down modes.", 42 DA0M/DA0 (hiz), 43 DA0P/DA1 (hiz), 44 DA2M/DA2 (hiz), 45 DA2P/DA3 (hiz), 46 DA4M/DA4 (hiz), 47 DA4P/DA5 (hiz), 50 DA6M/DA6 (hiz), 51 DA6P/DA7 (hiz), 52 DA8M/DA8 (hiz), 53 DA8P/DA9 (hiz), 54 DA10M/DA10 (hiz), 55 DA10P/DA11 (hiz), 56 CLKOUTM/UNUSED (hiz), 57 CLKOUTP/CLKOUT (hiz), 62 DB0M/DB0 (hiz), 63 DB0P/DB1 (hiz), 64 SDOUT (hiz) "This pin functions as a serial interface register readout when the READOUT bit is enabled. When READOUT = 0, this pin is in high-impedance state."
part B pins: 1 DRVDD (power) "Output buffer supply", 16 AVDD (power) "Analog power supply", 17 AGND (power) "Analog ground", 18 AGND (power) "Analog ground", 21 AGND (power) "Analog ground", 22 AVDD (power) "Analog power supply", 24 AGND (power) "Analog ground", 27 AGND (power) "Analog ground", 28 AGND (power) "Analog ground", 31 AGND (power) "Analog ground", 32 AGND (power) "Analog ground", 33 AVDD (power) "Analog power supply", 34 AVDD (power) "Analog power supply", 48 DRVDD (power) "Output buffer supply", 49 DRGND (power) "Output buffer ground", 65 EP (power) "Output buffer ground"
part C pins: 38 NC "Do not connect, must be floated", 39 NC "Do not connect, must be floated", 40 NC "Do not connect, must be floated", 41 NC "Do not connect, must be floated", 58 NC "Do not connect, must be floated", 59 NC "Do not connect, must be floated", 60 NC "Do not connect, must be floated", 61 NC "Do not connect, must be floated"

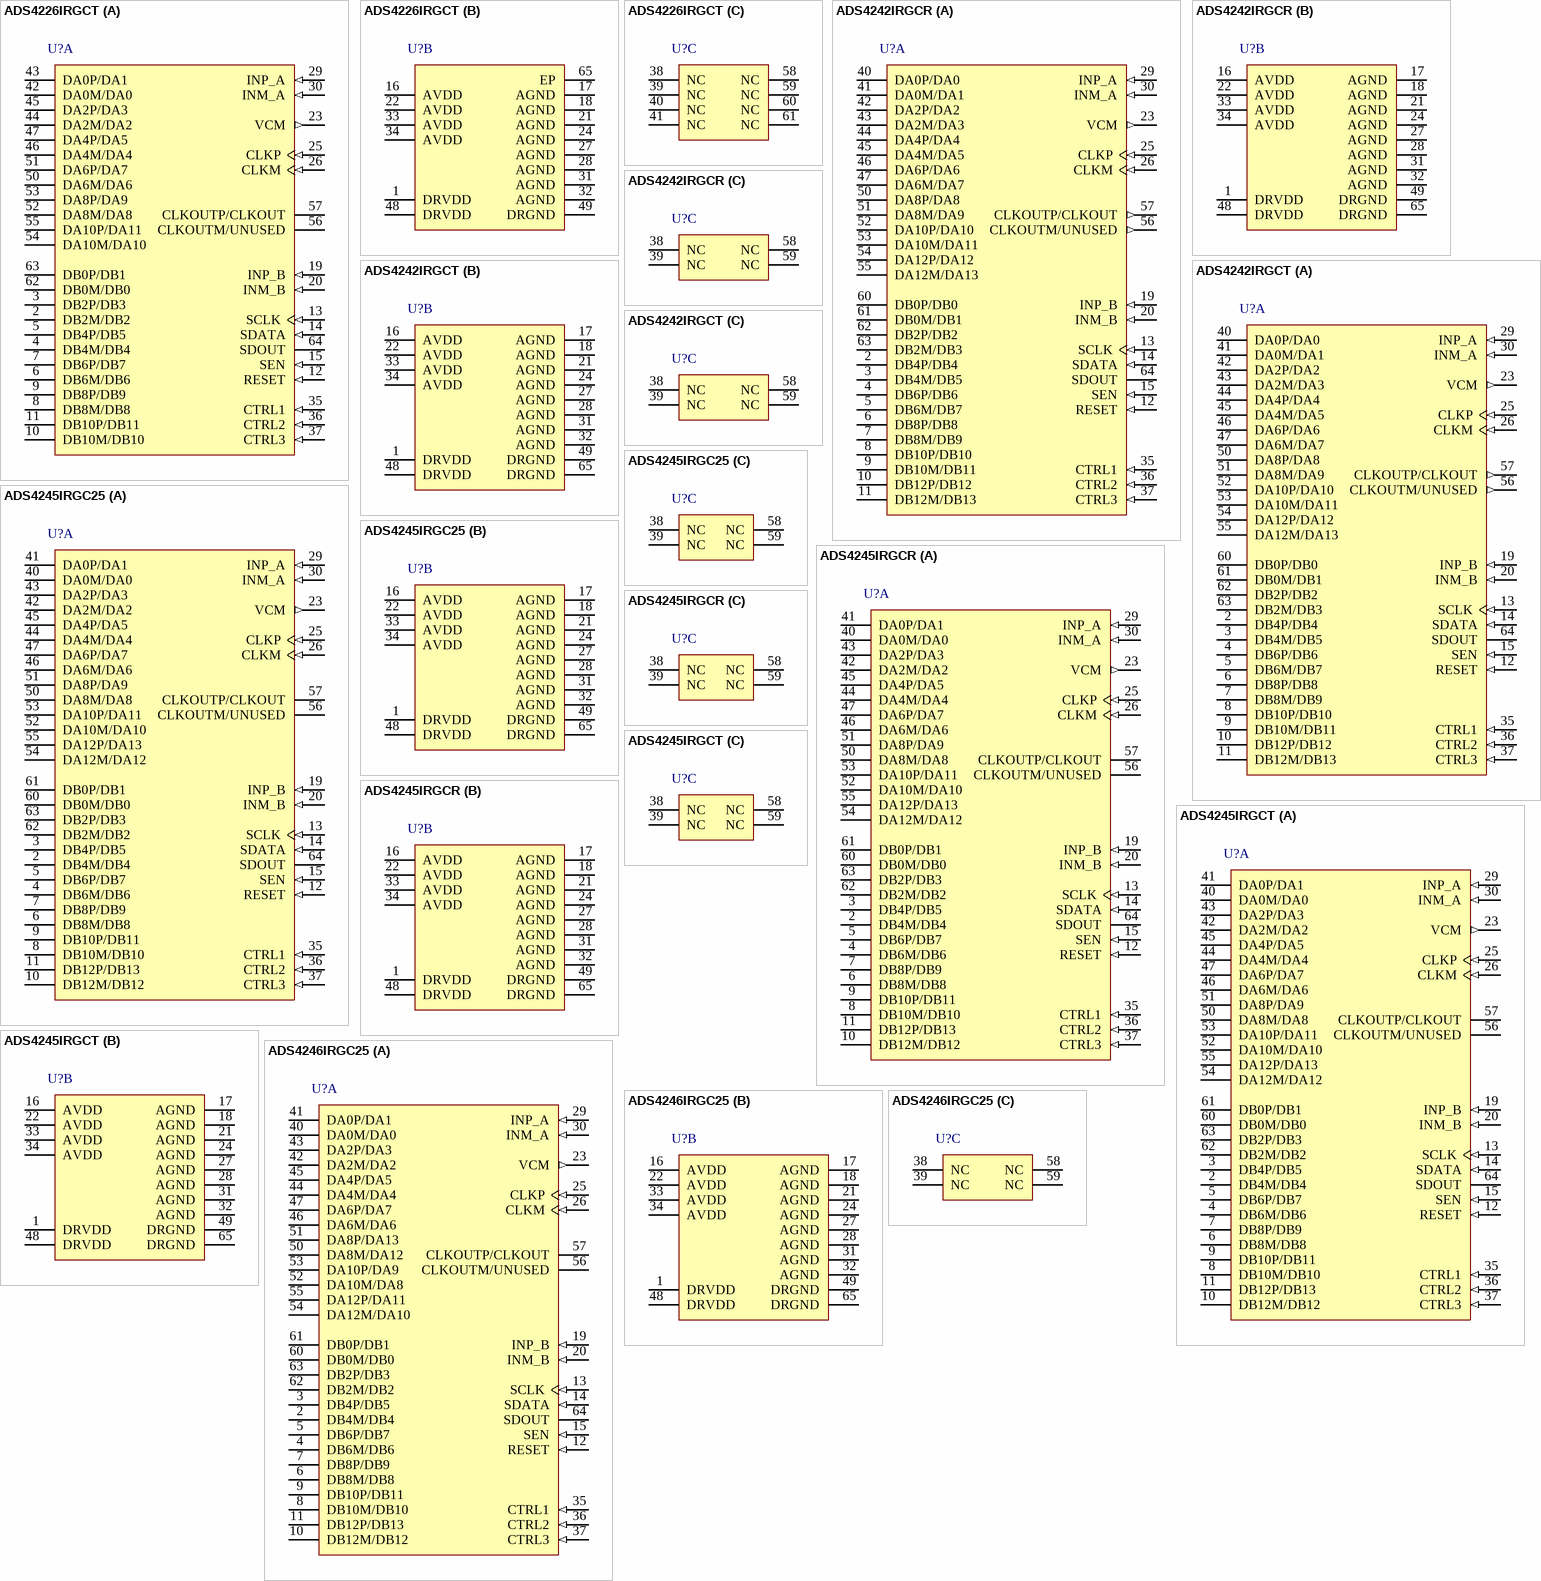
[diagram p33: symbols ADS4226IRGCT to ADS4246IRGC25]

## ADS4226IRGCT
designator U?
12-Bit 160 MSPS Dual Low Power ADC, -40 to 85 degC, 64-pin QFN (RGC64), Green (RoHS & no Sb/Br); Manufacturer: Texas Instruments; PartNumber: ADS4226IRGCT; # Input Channels: 2; Analog Voltage AV/DD(Max)(V): 1.9; Analog Voltage AV/DD(Min)(V): 1.7; Architecture: Pipeline; ENOB(Bits): 11.2; INL(Max)(+/-LSB): 3.5; Interface: Parallel CMOS, Parallel LVDS; Resolution(Bits): 12; Sample Rate (max)(SPS): 160M; SFDR(dB): 86; SINAD(dB): 70.4; SNR(dB): 70.5; SubFamily: High Speed ADC (>10MSPS); DatasheetVersion: SBAS533C; PackageVersion: 4204106/F, 11/2011; PackageReference: RGC64-7400X7400TP; PackageDescription: 64-Pin Plastic Quad Flatpack No-Lead, Body 9 x 9 mm, Pitch 0.5 mm; Supplier 1: Digi-Key; Supplier Part Number 1: 296-18271-2-ND; Supplier 2: Digi-Key; Supplier Part Number 2: 296-18271-1-ND; Supplier 3: Digi-Key; Supplier Part Number 3: 296-18271-6-ND; Supplier 4: Mouser; Supplier Part Number 4: 595-ADS8370IBRHPT; Digital Supply(Max)(V): 1.9; Digital Supply(Min)(V): 1.7; Eco-Plan: Green (RoHS & no Sb/Br); Mounting Technology: Surface Mount; ComponentLink1Description: Manufacturer URL; ComponentLink1URL: http://www.ti.com/; ComponentLink2Description: Datasheet; ComponentLink2URL: http://www.ti.com/general/docs/lit/getliterature.tsp?genericPartNumber=ADS4226&fileType=pdf; ComponentLink3Description: Package Specification; ComponentLink3URL: http://www.ti.com/litv/pdf/mpqf125e
footprint TI-RGC64-7400X7400TP_V (QFN, 64-Leads, Body 9x9mm, Pitch 0.5mm, Thermal Pad 7.4x7.4mm, TI Recommended)
part A pins: 2 DB2M/DB2 (hiz), 3 DB2P/DB3 (hiz), 4 DB4M/DB4 (hiz), 5 DB4P/DB5 (hiz), 6 DB6M/DB6 (hiz), 7 DB6P/DB7 (hiz), 8 DB8M/DB8 (hiz), 9 DB8P/DB9 (hiz), 10 DB10M/DB10 (hiz), 11 DB10P/DB11 (hiz), 12 RESET (in) "Serial interface RESET input. When using the serial interface mode, the internal registers must be initialized through a hardware RESET by applying a high pulse on this pin or by using the software reset option; refer to the (See Datasheet)", 13 SCLK (in) "This pin functions as a serial interface clock input when RESET is low. It controls the low-speed mode selection when RESET is tied high; see Table 5 for detailed information. This pin has an internal 150kOhm pull-down (See Datasheet)", 14 SDATA (in) "Serial interface data input; this pin has an internal 150kOhm pull-down resistor.", 15 SEN (in) "This pin functions as a serial interface enable input when RESET is low. It controls the output interface and data format selection when RESET is tied high; see Table 6 for detailed information. This pin has an internal (See Datasheet)", 19 INP_B (in) "Differential analog positive input, channel B", 20 INM_B (in) "Differential analog negative input, channel B", 23 VCM (out) "This pin outputs the common-mode voltage (0.95V) that can be used externally to bias the analog input pins", 25 CLKP (in) "Differential clock positive input", 26 CLKM (in) "Differential clock negative input", 29 INP_A (in) "Differential analog positive input, channel A", 30 INM_A (in) "Differential analog negative input, channel A", 35 CTRL1 (in) "Digital control input pins. Together, they control the various power-down modes.", 36 CTRL2 (in) "Digital control input pins. Together, they control the various power-down modes.", 37 CTRL3 (in) "Digital control input pins. Together, they control the various power-down modes.", 42 DA0M/DA0 (hiz), 43 DA0P/DA1 (hiz), 44 DA2M/DA2 (hiz), 45 DA2P/DA3 (hiz), 46 DA4M/DA4 (hiz), 47 DA4P/DA5 (hiz), 50 DA6M/DA6 (hiz), 51 DA6P/DA7 (hiz), 52 DA8M/DA8 (hiz), 53 DA8P/DA9 (hiz), 54 DA10M/DA10 (hiz), 55 DA10P/DA11 (hiz), 56 CLKOUTM/UNUSED (hiz), 57 CLKOUTP/CLKOUT (hiz), 62 DB0M/DB0 (hiz), 63 DB0P/DB1 (hiz), 64 SDOUT (hiz) "This pin functions as a serial interface register readout when the READOUT bit is enabled. When READOUT = 0, this pin is in high-impedance state."
part B pins: 1 DRVDD (power) "Output buffer supply", 16 AVDD (power) "Analog power supply", 17 AGND (power) "Analog ground", 18 AGND (power) "Analog ground", 21 AGND (power) "Analog ground", 22 AVDD (power) "Analog power supply", 24 AGND (power) "Analog ground", 27 AGND (power) "Analog ground", 28 AGND (power) "Analog ground", 31 AGND (power) "Analog ground", 32 AGND (power) "Analog ground", 33 AVDD (power) "Analog power supply", 34 AVDD (power) "Analog power supply", 48 DRVDD (power) "Output buffer supply", 49 DRGND (power) "Output buffer ground", 65 EP (power) "Output buffer ground"
part C pins: 38 NC "Do not connect, must be floated", 39 NC "Do not connect, must be floated", 40 NC "Do not connect, must be floated", 41 NC "Do not connect, must be floated", 58 NC "Do not connect, must be floated", 59 NC "Do not connect, must be floated", 60 NC "Do not connect, must be floated", 61 NC "Do not connect, must be floated"